# Altium schematic symbol library SCH-symbols.SchLib: 2 symbols
Pins are listed as number, name and electrical type; pins without a type are passive.

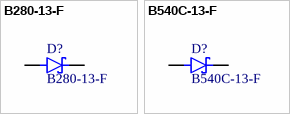
[diagram p0: symbols B280-13-F to B540C-13-F]

## B280-13-F
designator D?
Diode Schottky 80 V 2A Surface Mount SMB; Manufacturer: Diodes Inc.; Current: 2; Voltage: 80; Manufacturer Part Number: B280-13-F; Package: DO-214
footprint DIO_DO-214
pins: A, C K

## B540C-13-F
designator D?
Diode Schottky 40V 5A Surface Mount SMC; Manufacturer: Multicomp; Manufacturer Part Number: B540C-13-F; Voltage: *; Package: DO-214 Multicomp; Price: None; Current: *
footprint DIOM6959X245N
pins: A, C K